# EAGLE library part PINHD-1X10 (library Tinkercad)
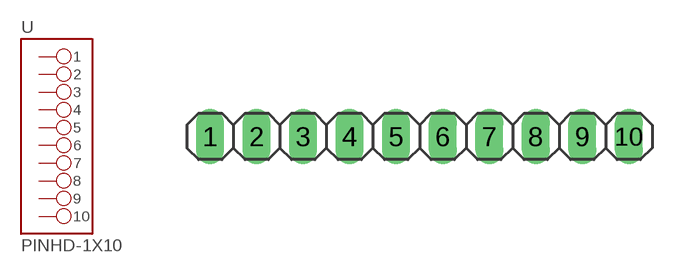
[diagram p51: symbol with the pads of 1X10; footprint 1X10]

Designator prefix -

## PINHD-1X10_1X10M  [1X10]
1  1
2  2
3  3
4  4
5  5
6  6
7  7
8  8
9  9
10  10

## Footprint 1X10 (pad centres in mm)
PIN HEADER
drill 1.016 long: 1 -11.43,0; 2 -8.89,0; 3 -6.35,0; 4 -3.81,0; 5 -1.27,0; 6 1.27,0; 7 3.81,0; 8 6.35,0; 9 8.89,0; 10 11.43,0